# EAGLE library part 613009143121 (library Wurth_Elektronik2)
WR-PHD 2.54mm Angled Socket Header, 9 Pins =>Code : Con_BTB_SHD_2.54_1_THT_613009143121 <http://katalog.we-online.de/media/images/eican/Con_BTB_SHD_2.54_1_THT_6130xx143121_pf2.jpg> Details see: http://katalog.we-online.de/en/em/613_0xx_143_121 Created 2014-05-29, Karrer Zheng 2014 (C) Würth Elektronik
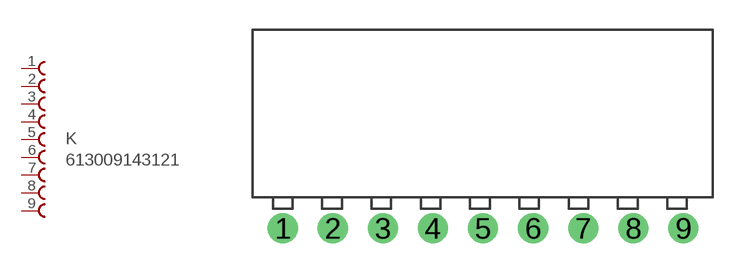
[diagram p132: symbol with the pads of 613009143121; footprint 613009143121]

Designator prefix K

## 613009143121  [613009143121]
1  1  pas
2  2  pas
3  3  pas
4  4  pas
5  5  pas
6  6  pas
7  7  pas
8  8  pas
9  9  pas

## Footprint 613009143121 (pad centres in mm)
WR-PHD 2.54mm Angled Socket Header, 9 Pins
drill 1.02: 1 0,0; 2 2.54,0; 3 5.08,0; 4 7.62,0; 5 10.16,0; 6 12.7,0; 7 15.24,0; 8 17.78,0; 9 20.32,0